# EAGLE library part WE-PSPA_1208 (library WE-PSPA)
WE-PSPA Push Pull & Gate Drive Transformer Characteristics Surface mount AEC-Q200 Variety of turn ratios Output voltages from 5 V up to 23 V Operating temperature:-40 °C up to +125 ºC Automotive approved Applications As a Gate Drive Transformator Transformator for Push Pull DC/DC Converter For isolated interfaces RS 485, CAN <https://www.we-online.com/components/media/o718702v209%20family-we-pspa-78931812xxx.jpg> Details see: www.we-online.com/components/products/WE-PSPA_PUSH_PULL_TRANSFORMER <www.we-online.com/catalog/WE-PSPA_PUSH_PULL_TRANSFORMER/?utm_source=eagle_model&utm_medium=description_link&utm_campaign=eisos_eagle> Created by Ella 2022-12-05 2022(C) Wurth Elektronik
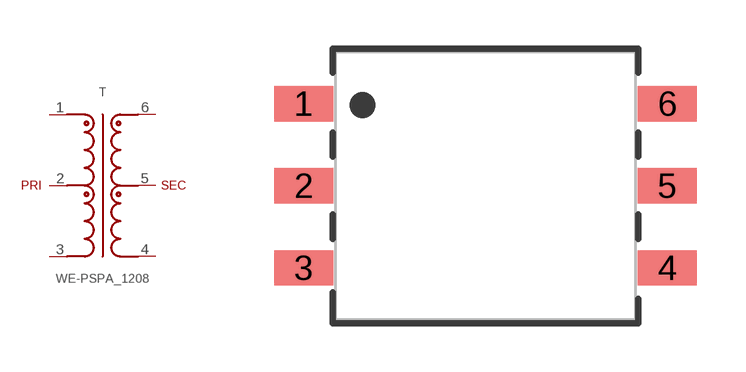
[diagram p1: symbol with the pads of WE-PSPA_1208; footprint WE-PSPA_1208]

Designator prefix T

## WE-PSPA_1208_78931812505 (DATASHEET-URL: https://www.we-online.com/redexpert/spec/78931812505?ae; HEIGHT: 4.1mm; IOUT1: 750mA; L: 86uH; LENGTH: 12.6mm; LS: 600nH; MOUNT: SMT; N: 1:1.13; PART-NUMBER: 78931812505; RDC1: 55ohm; RDC2: 55ohm; RDC3: 60ohm; RDC4: 60ohm; SIZE: 1208; TEST-CONDITION-N: (1-3) : (6-4); VALUE: 1:1.13; VIN: 5V; VOLTAGE-TIME: 9.5Vus; VOUT1: 5V; VT: 2500V(AC); WIDTH: 8.3mm), WE-PSPA_1208_78931812512 (DATASHEET-URL: https://www.we-online.com/redexpert/spec/78931812512?ae; HEIGHT: 4.1mm; IOUT1: 310mA; L: 86uH; LENGTH: 12.6mm; LS: 300nH; MOUNT: SMT; N: 1:2.5; PART-NUMBER: 78931812512; RDC1: 60ohm; RDC2: 60ohm; RDC3: 125ohm; RDC4: 125ohm; SIZE: 1208; TEST-CONDITION-N: (1-3) : (6-4); VALUE: 1:2.5; VIN: 5V; VOLTAGE-TIME: 9.5Vus; VOUT1: 12V; VT: 2500V(AC); WIDTH: 8.3mm), WE-PSPA_1208_78931812515 (DATASHEET-URL: https://www.we-online.com/redexpert/spec/78931812515?ae; HEIGHT: 4.1mm; IOUT1: 250mA; L: 86uH; LENGTH: 12.6mm; LS: 300nH; MOUNT: SMT; N: 1:3.13; PART-NUMBER: 78931812515; RDC1: 60ohm; RDC2: 60ohm; RDC3: 230ohm; RDC4: 230ohm; SIZE: 1208; TEST-CONDITION-N: (1-3) : (6-4); VALUE: 1:3.13; VIN: 5V; VOLTAGE-TIME: 9.5Vus; VOUT1: 15V; VT: 2500V(AC); WIDTH: 8.3mm), WE-PSPA_1208_78931812518 (DATASHEET-URL: https://www.we-online.com/redexpert/spec/78931812518?ae; HEIGHT: 4.1mm; IOUT1: 210mA; L: 86uH; LENGTH: 12.6mm; LS: 300nH; MOUNT: SMT; N: 1:3.75; PART-NUMBER: 78931812518; RDC1: 60ohm; RDC2: 60ohm; RDC3: 280ohm; RDC4: 280ohm; SIZE: 1208; TEST-CONDITION-N: (1-3) : (6-4); VALUE: 1:3.75; VIN: 5V; VOLTAGE-TIME: 9.5Vus; VOUT1: 18V; VT: 2500V(AC); WIDTH: 8.3mm), WE-PSPA_1208_78931812523 (DATASHEET-URL: https://www.we-online.com/redexpert/spec/78931812523?ae; HEIGHT: 4.1mm; IOUT1: 165mA; L: 86uH; LENGTH: 12.6mm; LS: 300nH; MOUNT: SMT; N: 1:4.75; PART-NUMBER: 78931812523; RDC1: 65ohm; RDC2: 65ohm; RDC3: 350ohm; RDC4: 350ohm; SIZE: 1208; TEST-CONDITION-N: (1-3) : (6-4); VALUE: 1:4.75; VIN: 5V; VOLTAGE-TIME: 9.5Vus; VOUT1: 23V; VT: 2500V(AC); WIDTH: 8.3mm)  [WE-PSPA_1208]
1  1  pas
2  2  pas
3  3  pas
4  4  pas
5  5  pas
6  6  pas

## Footprint WE-PSPA_1208 (pad centres in mm)
WE-PSPA Push Pull & Gate Drive Transformer Size: 1208, SMT, 6pins LxWxH=12.6x8.3x4.1mm
smd 1.83 x 1.09: 1 -5.62,2.54; 2 -5.62,0; 3 -5.62,-2.54; 4 5.62,-2.54; 5 5.62,0; 6 5.62,2.54